# EAGLE library part LTC3850-1 (library PowerProducts)
Dual, 2-Phase Synchronous Step-Down Switching Controller
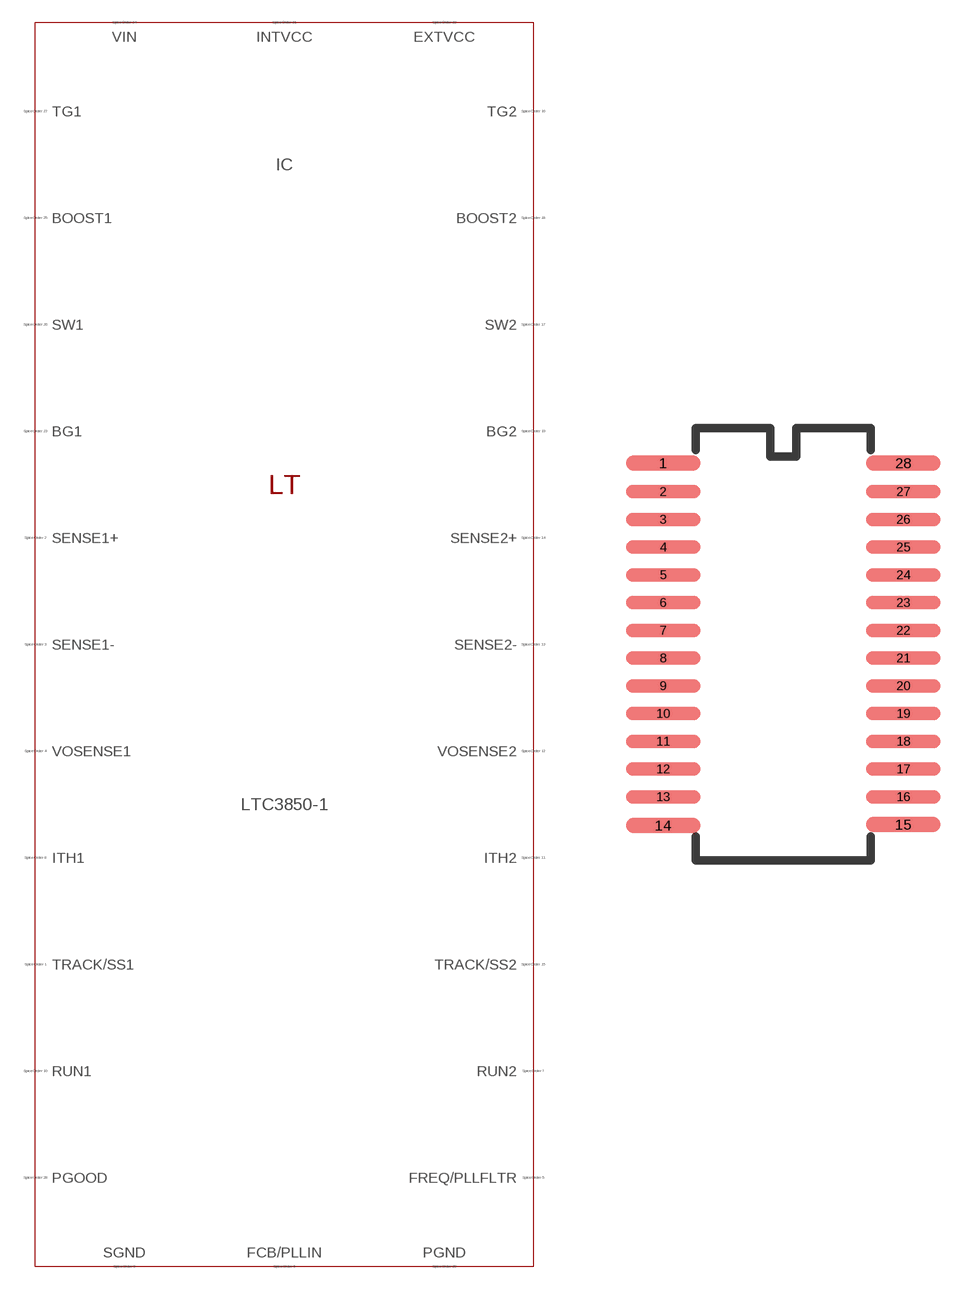
[diagram p362: symbol with the pads of SSOP28(GN); footprint SSOP28(GN)]

Designator prefix IC

## LTC3850-1 (SPICEMODEL: LTC3850-1.sub; SPICEPREFIX: X; VALUE2: LTC3850-1)  [SSOP28(GN)]
1  RUN1  pas
2  SENSE1+  pas
3  SENSE1-  pas
4  TRACK/SS1  pas
5  ITH1  pas
6  VOSENSE1  pas
7  SGND  pas
8  VOSENSE2  pas
9  ITH2  pas
10  TRACK/SS2  pas
11  SENSE2-  pas
12  SENSE2+  pas
13  RUN2  pas
14  EXTVCC  pas
15  PGOOD  pas
16  SW2  pas
17  TG2  pas
18  BOOST2  pas
19  PGND  pas
20  BG2  pas
21  INTVCC  pas
22  VIN  pas
23  BG1  pas
24  BOOST1  pas
25  TG1  pas
26  SW1  pas
27  FCB/PLLIN  pas
28  FREQ/PLLFLTR  pas

## Footprint SSOP28(GN) (pad centres in mm)
Package generated from: SSOP28(GN).asc (!PADS-POWERPCB-V5.0-BASIC! DESIGN DATABASE ASCII FILE 1.0) with :import-pads-powerpcb-v5.ulp Version 1.0.1 at 04.10.2012 14:11:39
smd 2.55 x 0.525: 1 -4.123,6.221; 14 -4.123,-6.221; 15 4.123,-6.191; 28 4.123,6.221
smd 2.55 x 0.458: 2 -4.123,5.239; 3 -4.123,4.286; 4 -4.123,3.334; 5 -4.123,2.381; 6 -4.123,1.429; 7 -4.123,0.476; 8 -4.123,-0.476; 9 -4.123,-1.429; 10 -4.123,-2.381; 11 -4.123,-3.334; 12 -4.123,-4.286; 13 -4.123,-5.239; 16 4.123,-5.239; 17 4.123,-4.286; 18 4.123,-3.334; 19 4.123,-2.381; 20 4.123,-1.429; 21 4.123,-0.476; 22 4.123,0.476; 23 4.123,1.429; 24 4.123,2.381; 25 4.123,3.334; 26 4.123,4.286; 27 4.123,5.239